# Altium integrated library Infineon_Automotive_System_IC.IntLib: 25 symbols (part 2 of 3)
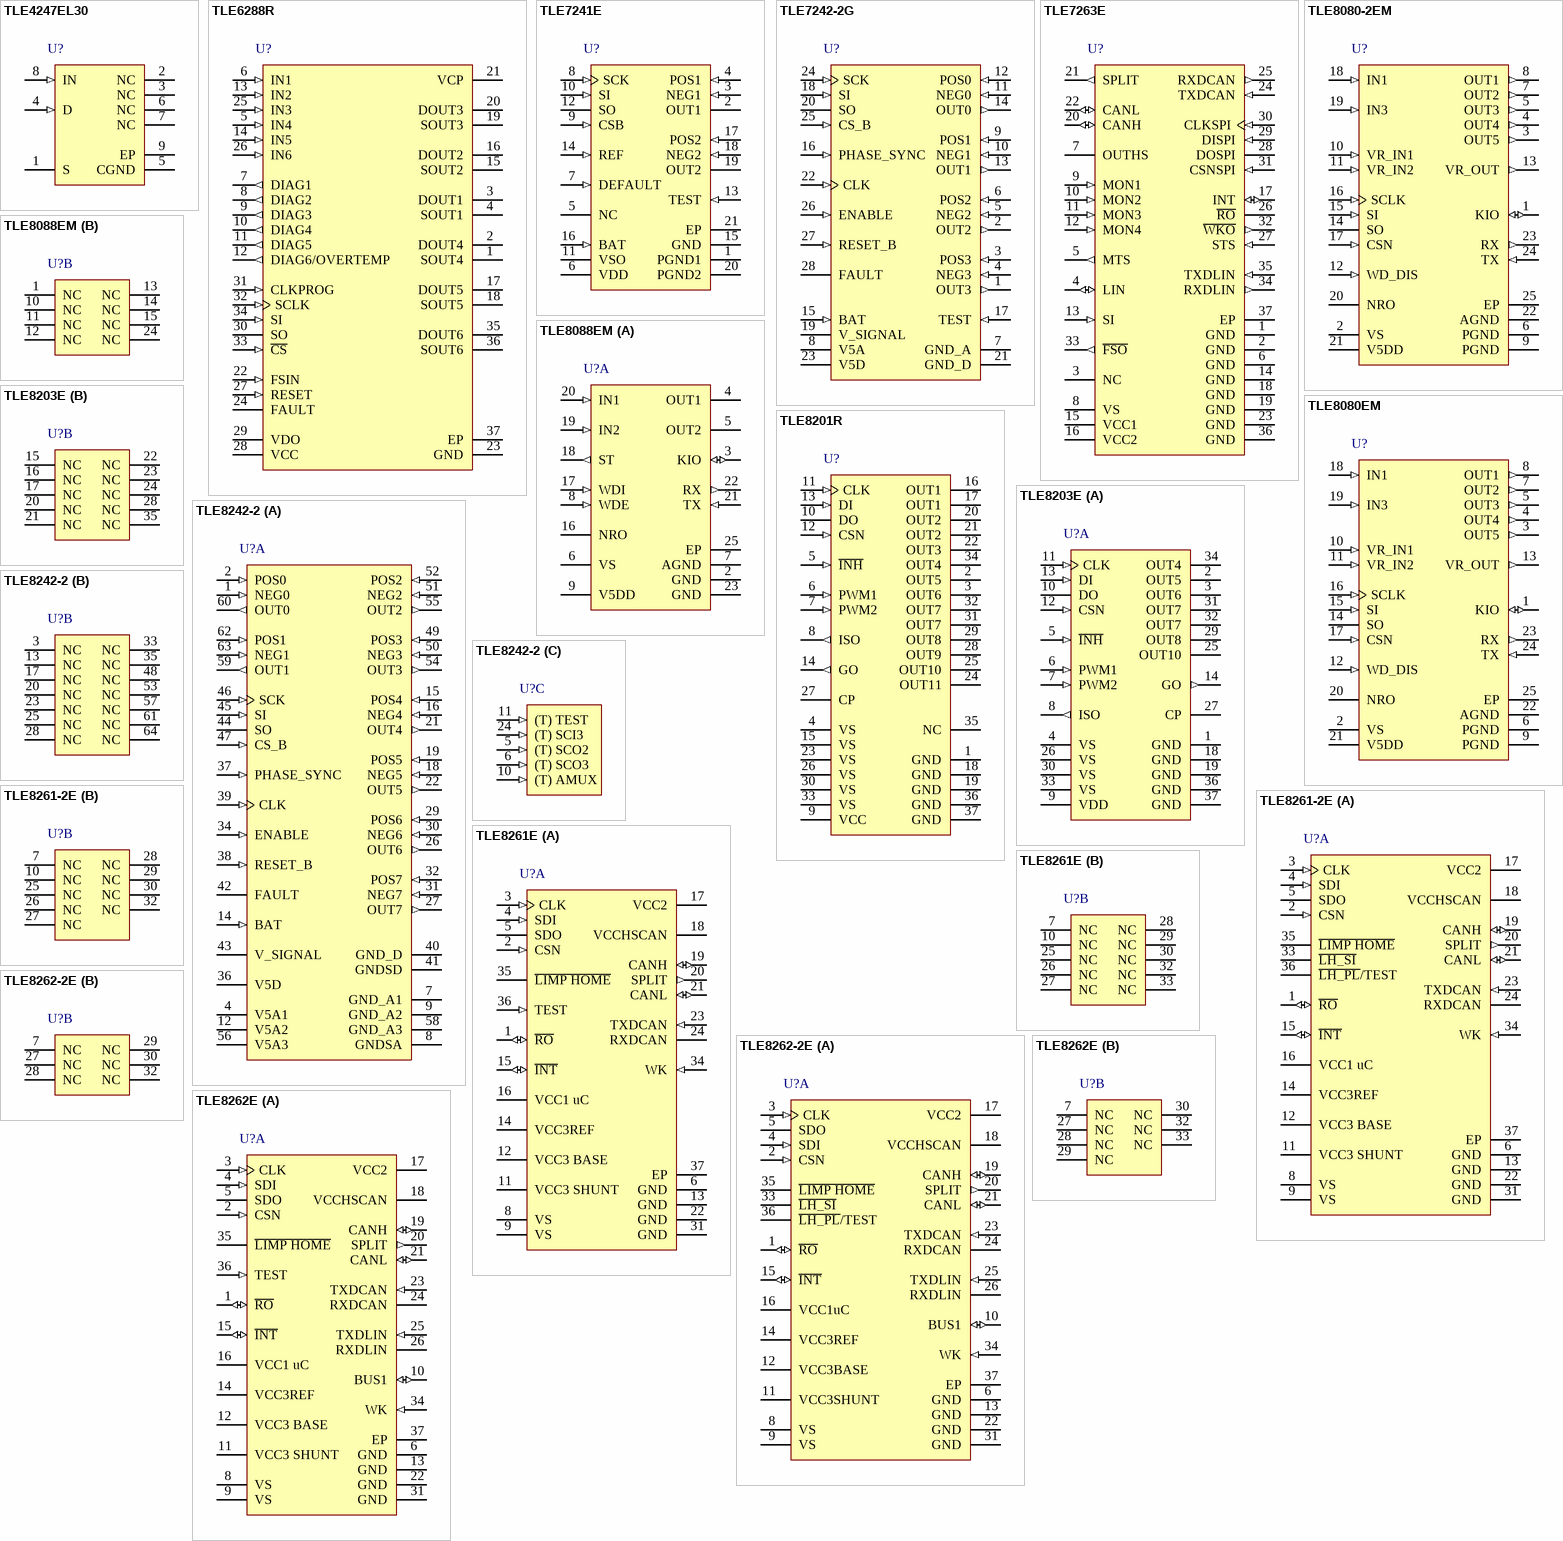
[diagram p2: symbols TLE4247EL30 to TLE8262E]

## TLE8242-2
designator U?
Fixed Frequency Constant Current Control with Current Profile Detection, 8 Channels, 5.5 to 42 V Operating Range, PG-LQFP-64-4, Reel, Green; Manufacturer: Infineon; PartNumber: TLE8242-2; Channels: 8; Green: TRUE; Quiescent Current (max.): 0.005 mA; SPI: 32 Bit; DatasheetVersion: Rev. 1.0; PackageVersion: Jun-08; PackageReference: PG-LQFP-64-4; PackageDescription: 64-Pin Plastic (Green) Low Profile Quad Flat Package, 10 x 10 mm Body, 0.5 mm Pitch; Halogen-free: TRUE; Operating Range: 5.5 to 42 V; Packing: Reel; Mounting Technology: Surface Mount; ComponentLink1Description: Manufacturer URL; ComponentLink1URL: http://www.infineon.com/; ComponentLink2Description: Datasheet; ComponentLink2URL: http://www.infineon.com/dgdl/TLE8242-2-Data+Sheet-Infineon-v10.pdf?folderId=db3a30431b3e89eb011bb632994f065b&fileId=db3a3043271faefd012743c4b3380fdd&sId=db3a30443d67b5ca013d7f5feae12b87; ComponentLink3Description: Package Specification; ComponentLink3URL: http://www.infineon.com/dgdl/PG-LQFP-64-4%2C-5%2C-13-Package_Overview.pdf?folderId=db3a30431a5c32f2011a8ca6115b5cf2&fileId=db3a30431a5c32f2011a8cb1baf95d11
footprint INF-PG-LQFP-64-4_N (QFP, 64-Leads, Body 10x10mm, Pitch 0.5mm, IPC Medium Density)
footprint INF-PG-LQFP-64-4_L (QFP, 64-Leads, Body 10x10mm, Pitch 0.5mm, IPC High Density)
footprint INF-PG-LQFP-64-4_M (QFP, 64-Leads, Body 10x10mm, Pitch 0.5mm, IPC Low Density)
part A pins: 1 NEG0 (in) "Channel #0 Negative sense pin; Connect to the “FET” side of the external sense resistor", 2 POS0 (in) "Channel #0 Positive sense pin; Connect to the “load” side of the external sense resistor", 4 V5A1 (power) "Supply Voltage; 5V input for analog circuits. An external capacitor is to be connected between this pin and GND_A near this pin", 7 GND_A1 (power) "Ground; ground pin for analog circuits", 8 GNDSA (power) "Ground; ground pin for substrate connection near analog circuits", 9 GND_A2 (power) "Ground; ground pin for analog circuits", 12 V5A2 (power) "Supply Voltage; 5V input for analog. An external capacitor is to be connected between this pin and GND_A near this pin", 14 BAT (in) "Battery Sense Input; for over-voltage detection. Connect through a series resistor (e.g. 1 K ohm) to the solenoid supply voltage. A large electrolytic capacitor (e.g. 47uF) should be placed between the BAT supply and ground", 15 POS4 (in) "Channel #4 Positive sense pin; Connect to the “load” side of the external sense resistor", 16 NEG4 (in) "Channel #4 Negative sense pin; Connect to the “FET” side of the external sense resistor", 18 NEG5 (in) "Channel #5 Negative sense pin; Connect to the “FET” side of the external sense resistor", 19 POS5 (in) "Channel #5 Positive sense pin; Connect to the “load” side of the external sense resistor", 21 OUT4 (out) "Gate driver output for channel #4; Connect to the gate of the external MOSFET", 22 OUT5 (out) "Gate driver output for channel #5; Connect to the gate of the external MOSFET", 26 OUT6 (out) "Gate driver output for channel #6; Connect to the gate of the external MOSFET", 27 OUT7 (out) "Gate driver output for channel #7; Connect to the gate of the external MOSFET", 29 POS6 (in) "Channel #6 Positive sense pin; Connect to the “load” side of the external sense resistor", 30 NEG6 (in) "Channel #6 Negative sense pin; Connect to the “FET” side of the external sense resistor", 31 NEG7 (in) "Channel #7 Negative sense pin; Connect to the “FET” side of the external sense resistor", 32 POS7 (in) "Channel #7 Positive sense pin; Connect to the “load” side of the external sense resistor", 34 ENABLE (in) "ENABLE logic input; When this input pin is low all channels are turned off (zero current) or remain in their last state, depending on how the channel is programmed to respond", 36 V5D (power) "Supply Voltage; 5V input for digital circuits. An external capacitor is to be connected between this pin and GND_D near this pin", 37 PHASE_SYNC (in) "Phase Synchronization Input: Used to synchronize the rising edges of the PWM signal on the OUTx pins for each channel", 38 RESET_B (in) "Reset Input; When this input pin is low all channels are turned off and all internal registers are reset to the default state. The part must be held in reset by an external source until all supplies are stable and within (See Datasheet)", 39 CLK (in) "CLOCK; Main clock input for the chip. A clock input of 20 MHz to 40 MHz is required", 40 GND_D (power) "Ground; ground pin for digital circuits", 41 GNDSD (power) "Ground; ground pin for substrate connection near digital circuits", 42 FAULT (oc) "Fault Output Pin; Open drain output pin is pulled low when a fault condition is detected. Certain faults can be masked via SPI", 43 V_SIGNAL (power) "Supply Voltage; Supply pin for the SPI SO output and the pull-up current sources of the digital inputs CS_B and RESET_B. An external capacitor must be connected between this pin and GND_D near this pin", 44 SO (hiz) "SPI Serial Data Out", 45 SI (in) "SPI Serial Data In", 46 SCK (in) "SPI Serial Clock Input", 47 CS_B (in) "SPI Chip Select Bar; active low signal", 49 POS3 (in) "Channel #3 Positive sense pin; Connect to the “load” side of the external sense resistor", 50 NEG3 (in) "Channel #3 Negative sense pin; Connect to the “FET” side of the external sense resistor", 51 NEG2 (in) "Channel #2 Negative sense pin; Connect to the “FET” side of the external sense resistor", 52 POS2 (in) "Channel #2 Positive sense pin; Connect to the “load” side of the external sense resistor", 54 OUT3 (out) "Gate driver output for channel #3; Connect to the gate of the external MOSFET", 55 OUT2 (out) "Gate driver output for channel #2; Connect to the gate of the external MOSFET", 56 V5A3 (power) "Supply Voltage;5V input for analog. An external capacitor is to be connected between this pin and GND_A near this pin.", 58 GND_A3 (power) "Ground; ground pin for analog circuits", 59 OUT1 (out) "Gate driver output for channel #1; Connect to the gate of the external MOSFET", 60 OUT0 (out) "Gate driver output for channel #0; Connect to the gate of the external MOSFET", 62 POS1 (in) "Channel #1 Positive sense pin; Connect to the “load” side of the external sense resistor", 63 NEG1 (in) "Channel #1 Negative sense pin; Connect to the “FET” side of the external sense resistor"
part B pins: 3 NC "Not Connected; do not connect to external supply, ground, or signal", 13 NC "Not Connected; do not connect to external supply, ground, or signal", 17 NC "Not Connected; do not connect to external supply, ground, or signal", 20 NC "Not Connected; do not connect to external supply, ground, or signal", 23 NC "Not Connected; do not connect to external supply, ground, or signal", 25 NC "Not Connected; do not connect to external supply, ground, or signal", 28 NC "Not Connected; do not connect to external supply, ground, or signal", 33 NC "Not Connected; do not connect to external supply, ground, or signal", 35 NC "Not Connected; do not connect to external supply, ground, or signal", 48 NC "Not Connected; do not connect to external supply, ground, or signal", 53 NC "Not Connected; do not connect to external supply, ground, or signal", 57 NC "Not Connected; do not connect to external supply, ground, or signal", 61 NC "Not Connected; do not connect to external supply, ground, or signal", 64 NC "Not Connected; do not connect to external supply, ground, or signal"
part C pins: 5 (T) SCO2 (in) "Test Pin; Used for IC test. Must be connected to GND_D for specified operation of the IC", 6 (T) SCO3 (in) "Test Pin; Used for IC test. Must be connected to GND_D for specified operation of the IC", 10 (T) AMUX (in) "Test Pin; Used for IC test. Must be connected to GND_D for specified operation of the IC", 11 (T) TEST (in) "Test Pin; Used for IC test. Must be connected to GND_D for specified operation of the IC", 24 (T) SCI3 (in) "Test Pin; Used for IC test. Must be connected to GND_D for specified operation of the IC"

## TLE8261-2E
designator U?
Universal System Basis Chip HERMES with Standard and Window Watchdog, PG-DSO-36-38, Reel, Green; Manufacturer: Infineon; PartNumber: TLE8261-2E; Failure Management: Fail-Safe 3 Limp-Home Outputs CAN Failure Detection; Green: TRUE; Group: High Speed CAN; Quiescent Current (max.): 28 uA (typ) Sleep Mode (5V on); Standby Current: 58 uA (typ) Stop Mode (5V on); Transceiver: High Speed CAN ISO 11898 - 5; Voltage Regulator Output: 2 x 200 mA + 400 mA; Wake-up inputs: Wake Pin, CAN; DatasheetVersion: Rev. 1.0; PackageVersion: Apr-09; PackageReference: PG-DSO-36-38; PackageDescription: 36-Pin Plastic (Green) Dual Small Outline Package, 12.7 x 7.5 mm Body, 0.65 mm Pitch; Supplier 1: Mouser; Supplier Part Number 1: 726-TLE82612E; Supplier 2: Digi-Key; Supplier Part Number 2: TLE8261-2E-ND; Halogen-free: TRUE; Packing: Reel; Watchdog: Standard and Window Watchdog; Mounting Technology: Surface Mount; ComponentLink1Description: Manufacturer URL; ComponentLink1URL: http://www.infineon.com/; ComponentLink2Description: Datasheet; ComponentLink2URL: http://www.infineon.com/dgdl/TLE8261-2E_DS_100.pdf?folderId=db3a30431ed1d7b2011edadb13813703&fileId=db3a304327b8975001281fd7ee23454c&location=en.Products.Automotive_ICs.System_Basis_Chips__SBC_.DATASHEET.TLE8261-2E_DS_100.pdf; ComponentLink3Description: Package Specification; ComponentLink3URL: http://www.infineon.com/dgdl/PG-DSO-36-24%2C-38%2C-41%2C-42%2C-50-Package_Overview.pdf?folderId=db3a304316f66ee801179ce26c705f4a&fileId=db3a304319c6f18c011a3ac6ea200605
footprint INF-PG-DSO-36-38-7000X5100TP_N (SOP, 36-Leads, Body 12.7x7.5mm, Pitch 0.65mm, Thermal Pad 7x5.1mm, IPC Medium Density)
footprint INF-PG-DSO-36-38-7000X5100TP_L (SOP, 36-Leads, Body 12.7x7.5mm, Pitch 0.65mm, Thermal Pad 7x5.1mm, IPC High Density)
footprint INF-PG-DSO-36-38-7000X5100TP_M (SOP, 36-Leads, Body 12.7x7.5mm, Pitch 0.65mm, Thermal Pad 7x5.1mm, IPC Low Density)
part A pins: 1 ~{RO} (io) "Reset Input/Output; open drain output, integrated pull-up resistor; active low.", 2 CSN (in) "SPI Chip Select Not Input; CSN is an active low input; serial communication is enabled by pulling the CSN terminal low; CSN input should be set to low only when CLK is low; CSN has an internal pull-up resistor and requires (See Datasheet)", 3 CLK (in) "SPI Clock Input; clock input for shift register; CLK has an internal pull-down resistor and requires CMOS logic level inputs.", 4 SDI (in) "SPI Data Input; receives serial data from the control device; serial data transmitted to SDI is a 16-bit control word with the Least Significant Bit (LSB) transferred first: the input has a pull-down resistor and requires (See Datasheet)", 5 SDO (hiz) "SPI Data Output; this tri-state output transfers diagnostic data to the control device; the output will remain tri-stated unless the device is selected by a low on Chip Select Not (CSN).", 6 GND (power) "Ground", 8 VS (power) "Power Supply Input; block to GND directly at the IC with ceramic capacitor. Ensure to have no current flow from PIN8 to PIN9. PIN8 and PIN9 can be directly connected.", 9 VS (power) "Power Supply Input; block to GND directly at the IC with ceramic capacitor. Ensure to have no current flow from PIN8 to PIN9. PIN8 and PIN9 can be directly connected.", 11 VCC3 SHUNT (power) "PNP Shunt; External PNP emitter voltage.", 12 VCC3 BASE (power) "PNP Base; External PNP base voltage.", 13 GND (power) "Ground", 14 VCC3REF (power) "External PNP Output Voltage", 15 ~{INT} (io) "Interrupt Output, configuration Input; used as wake-up flag from SBC Stop Mode and indicating failures. Active low. Integrated pull up. During start-up used to set the SBC configuration. External Pull-up sets config 1/3, no (See Datasheet)", 16 VCC1 uC (power) "Voltage Regulator Output; 5 V supply; to stabilize block to GND with an external capacitor.", 17 VCC2 (power) "Voltage Regulator Output; 5 V supply; to stabilize block to GND with an external capacitor.", 18 VCCHSCAN (power) "Supply Input; for the internal HS CAN cell.", 19 CANH (io) "CAN High Line; High in dominant state.", 20 SPLIT (out) "Termination Output; to support recessive voltage level of the bus lines.", 21 CANL (io) "CAN Low Line; Low in dominant state.", 22 GND (power) "Ground", 23 TXDCAN (in) "CAN Transmit Data Input; integrated pull-up resistor.", 24 RXDCAN (hiz) "CAN Receive Data Output", 31 GND (power) "Ground", 33 ~{LH_SI} (oc) "Limp Home side indicator; Side indicators 1.25Hz 50% duty cycle output; Open drain. Active LOW.", 34 WK (in) "Monitoring / Wake-Up Input; bi-level sensitive input used to monitor signals coming from, for example, an external switch panel; also used as wake-up input;", 35 ~{LIMP HOME} (hiz) "Fail-Safe Function Output; Open drain. Active LOW.", 36 ~{LH_PL}/TEST "SBC SW Development Mode entry; Connect to GND for activation; Integrated pullup resistor. Connect to VS or leave open for normal operation. Limp Home Pulsed Light output: Brake/rear light 100Hz 20% duty cycle output; Open (See Datasheet)", 37 EP (power) "Exposed Die Pad; For cooling purposes only, do not use it as an electrical ground.1"
part B pins: 7 NC "Not connected", 10 NC "Not connected", 25 NC "Not connected", 26 NC "Not connected", 27 NC "Not connected", 28 NC "Not connected", 29 NC "Not connected", 30 NC "Not connected", 32 NC "Not connected"

## TLE8261E
designator U?
Universal System Basis Chip HERMES with Standard and Window Watchdog, PG-DSO-36-38, Reel, Green; Manufacturer: Infineon; PartNumber: TLE8261E; Failure Management: Fail-Safe Mode Limp-Home Output CAN Failure Detection; Green: TRUE; Group: High Speed CAN; Quiescent Current (max.): 28 uA (typ) Sleep Mode (5V on); Standby Current: 58 uA (typ) Stop Mode (5V on); Transceiver: High Speed CAN ISO 11898 - 5; Voltage Regulator Output: 2 x 200 mA + 400 mA; Wake-up inputs: Wake Pin, CAN; DatasheetVersion: Rev. 1.0; PackageVersion: Apr-09; PackageReference: PG-DSO-36-38; PackageDescription: 36-Pin Plastic (Green) Dual Small Outline Package, 12.7 x 7.5 mm Body, 0.65 mm Pitch; Supplier 1: Mouser; Supplier Part Number 1: 726-TLE8261E; Supplier 2: Digi-Key; Supplier Part Number 2: TLE8261E-ND; Halogen-free: TRUE; Packing: Reel; Watchdog: Standard and Window Watchdog; Mounting Technology: Surface Mount; ComponentLink1Description: Manufacturer URL; ComponentLink1URL: http://www.infineon.com/; ComponentLink2Description: Datasheet; ComponentLink2URL: http://www.infineon.com/dgdl/TLE8261E_DS_100.pdf?folderId=db3a30431ed1d7b2011edadb13813703&fileId=db3a304320d39d59012186d5c47c2a01&location=en.Products.Automotive_ICs.System_Basis_Chips__SBC_.DATASHEET.TLE8261E_DS_100.pdf; ComponentLink3Description: Package Specification; ComponentLink3URL: http://www.infineon.com/dgdl/PG-DSO-36-24%2C-38%2C-41%2C-42%2C-50-Package_Overview.pdf?folderId=db3a304316f66ee801179ce26c705f4a&fileId=db3a304319c6f18c011a3ac6ea200605
footprint INF-PG-DSO-36-38-7000X5100TP_N (SOP, 36-Leads, Body 12.7x7.5mm, Pitch 0.65mm, Thermal Pad 7x5.1mm, IPC Medium Density)
footprint INF-PG-DSO-36-38-7000X5100TP_L (SOP, 36-Leads, Body 12.7x7.5mm, Pitch 0.65mm, Thermal Pad 7x5.1mm, IPC High Density)
footprint INF-PG-DSO-36-38-7000X5100TP_M (SOP, 36-Leads, Body 12.7x7.5mm, Pitch 0.65mm, Thermal Pad 7x5.1mm, IPC Low Density)
part A pins: 1 ~{RO} (io) "Reset Input/Output; open drain output, integrated pull-up resistor; active low.", 2 CSN (in) "SPI Chip Select Not Input; CSN is an active low input; serial communication is enabled by pulling the CSN terminal low; CSN input should be set to low only when CLK is low; CSN has an internal pull-up resistor and requires (See Datasheet)", 3 CLK (in) "SPI Clock Input; clock input for shift register; CLK has an internal pull-down resistor and requires CMOS logic level inputs.", 4 SDI (in) "SPI Data Input; receives serial data from the control device; serial data transmitted to SDI is a 16-bit control word with the Least Significant Bit (LSB) transferred first: the input has a pull-down resistor and requires (See Datasheet)", 5 SDO (hiz) "SPI Data Output; this tri-state output transfers diagnostic data to the control device; the output will remain tri-stated unless the device is selected by a low on Chip Select Not (CSN).", 6 GND (power) "Ground", 8 VS (power) "Power Supply Input; block to GND directly at the IC with ceramic capacitor. Ensure to have no current flow from PIN8 to PIN9. PIN8 and PIN9 can be directly connected.", 9 VS (power) "Power Supply Input; block to GND directly at the IC with ceramic capacitor. Ensure to have no current flow from PIN8 to PIN9. PIN8 and PIN9 can be directly connected.", 11 VCC3 SHUNT (power) "PNP Shunt; External PNP emitter voltage.", 12 VCC3 BASE (power) "PNP Base; External PNP base voltage.", 13 GND (power) "Ground", 14 VCC3REF (power) "External PNP Output Voltage", 15 ~{INT} (io) "Interrupt Output, configuration Input; used as wake-up flag from SBC Stop Mode and indicating failures. Active low. Integrated pull up. During start-up used to set the SBC configuration. External Pull-up sets config 1/3, no (See Datasheet)", 16 VCC1 uC (power) "Voltage Regulator Output; 5 V supply; to stabilize block to GND with an external capacitor.", 17 VCC2 (power) "Voltage Regulator Output; 5 V supply; to stabilize block to GND with an external capacitor.", 18 VCCHSCAN (power) "Supply Input; for the internal HS CAN cell.", 19 CANH (io) "CAN High Line; High in dominant state.", 20 SPLIT (out) "Termination Output; to support recessive voltage level of the bus lines.", 21 CANL (io) "CAN Low Line; Low in dominant state.", 22 GND (power) "Ground", 23 TXDCAN (in) "CAN Transmit Data Input; integrated pull-up resistor.", 24 RXDCAN (hiz) "CAN Receive Data Output", 31 GND (power) "Ground", 34 WK (in) "Monitoring / Wake-Up Input; bi-level sensitive input used to monitor signals coming from, for example, an external switch panel; also used as wake-up input;", 35 ~{LIMP HOME} (hiz) "Fail-Safe Function Output; Open drain. Active LOW.", 36 TEST (in) "SBC SW Development Mode entry; Connect to GND for activation; Integrated pullup resistor. Connect to VS or leave open for normal operation.", 37 EP "Exposed Die Pad; For cooling purposes only, do not use it as an electrical ground.1"
part B pins: 7 NC "Not connected", 10 NC "Not connected", 25 NC "Not connected", 26 NC "Not connected", 27 NC "Not connected", 28 NC "Not connected", 29 NC "Not connected", 30 NC "Not connected", 32 NC "Not connected", 33 NC "Not connected"

## TLE8262-2E
designator U?
Universal System Basis Chip HERMES with Standard and Window Watchdog, PG-DSO-36-38, Reel, Green; Manufacturer: Infineon; PartNumber: TLE8262-2E; Failure Management: Fail-Safe 3 Limp-Home Outputs CAN Failure Detection; Green: TRUE; Group: High Speed CAN + LIN; Quiescent Current (max.): 28 uA (typ) Sleep Mode (5V on); Standby Current: 58 uA (typ) Stop Mode (5V on); Transceiver: High Speed CAN ISO 11898 - 5 / 1 x LIN2.1 / J2602; Voltage Regulator Output: 2 x 200 mA + 400 mA; Wake-up inputs: Wake Pin, CAN, LIN; DatasheetVersion: Rev. 1.0; PackageVersion: Apr-09; PackageReference: PG-DSO-36-38; PackageDescription: 36-Pin Plastic (Green) Dual Small Outline Package, 12.7 x 7.5 mm Body, 0.65 mm Pitch; Supplier 1: Mouser; Supplier Part Number 1: 726-TLE82622E; Supplier 2: Digi-Key; Supplier Part Number 2: TLE8262-2E-ND; Halogen-free: TRUE; Packing: Reel; Watchdog: Standard and Window Watchdog; Mounting Technology: Surface Mount; ComponentLink1Description: Manufacturer URL; ComponentLink1URL: http://www.infineon.com/; ComponentLink2Description: Datasheet; ComponentLink2URL: http://www.infineon.com/dgdl/TLE8262-2E_DS_100.pdf?folderId=db3a30431ed1d7b2011edadb13813703&fileId=db3a304327b8975001281fdab29e4553&location=en.Products.Automotive_ICs.System_Basis_Chips__SBC_.DATASHEET.TLE8262-2E_DS_100.pdf; ComponentLink3Description: Package Specification; ComponentLink3URL: http://www.infineon.com/dgdl/PG-DSO-36-24%2C-38%2C-41%2C-42%2C-50-Package_Overview.pdf?folderId=db3a304316f66ee801179ce26c705f4a&fileId=db3a304319c6f18c011a3ac6ea200605
footprint INF-PG-DSO-36-38-7000X5100TP_N (SOP, 36-Leads, Body 12.7x7.5mm, Pitch 0.65mm, Thermal Pad 7x5.1mm, IPC Medium Density)
footprint INF-PG-DSO-36-38-7000X5100TP_L (SOP, 36-Leads, Body 12.7x7.5mm, Pitch 0.65mm, Thermal Pad 7x5.1mm, IPC High Density)
footprint INF-PG-DSO-36-38-7000X5100TP_M (SOP, 36-Leads, Body 12.7x7.5mm, Pitch 0.65mm, Thermal Pad 7x5.1mm, IPC Low Density)
part A pins: 1 ~{RO} (io) "Reset Input/Output; open drain output, integrated pull-up resistor; active low.", 2 CSN (in) "SPI Chip Select Not Input; CSN is an active low input; serial communication is enabled by pulling the CSN terminal low; CSN input should be set to low only when CLK is low; CSN has an internal pull-up resistor and requires (See Datasheet)", 3 CLK (in) "SPI Clock Input; clock input for shift register; CLK has an internal pull-down resistor and requires CMOS logic level inputs.", 4 SDI (in) "SPI Data Input; receives serial data from the control device; serial data transmitted to SDI is a 16-bit control word with the Least Significant Bit (LSB) transferred first: the input has a pull-down resistor and requires (See Datasheet)", 5 SDO (hiz) "SPI Data Output; this tri-state output transfers diagnostic data to the control device; the output will remain tri-stated unless the device is selected by a low on Chip Select Not (CSN).", 6 GND (power) "Ground", 8 VS (power) "Power Supply Input; block to GND directly at the IC with ceramic capacitor. Ensure to have no current flow from PIN8 to PIN9. PIN8 and PIN9 can be directly connected.", 9 VS (power) "Power Supply Input; block to GND directly at the IC with ceramic capacitor. Ensure to have no current flow from PIN8 to PIN9. PIN8 and PIN9 can be directly connected.", 10 BUS1 (io) "LIN Bus 1; Bus line for the LIN interface, according to ISO. 9141 and LIN specification 2.1 as well as SAE J2602-2.", 11 VCC3SHUNT (power) "PNP Shunt; External PNP emitter voltage.", 12 VCC3BASE (power) "PNP Base; External PNP base voltage.", 13 GND (power) "Ground", 14 VCC3REF (power) "External PNP Output Voltage", 15 ~{INT} (io) "Interrupt Output, configuration Input; used as wake-up flag from SBC Stop Mode and indicating failures. Active low. Integrated pull up. During start up used to set the SBC configuration. External Pull-up sets config 1/3, no (See Datasheet)", 16 VCC1uC (power) "Voltage Regulator Output; 5 V supply; to stabilize block to GND with an external capacitor.", 17 VCC2 (power) "Voltage Regulator Output; 5 V supply; to stabilize block to GND with an external capacitor.", 18 VCCHSCAN (power) "Supply Input; for the internal HS CAN cell.", 19 CANH (io) "CAN High Line; High in dominant state.", 20 SPLIT (out) "Termination Output; to support recessive voltage level of the bus lines", 21 CANL (io) "CAN Low Line; Low in dominant state", 22 GND (power) "Ground", 23 TXDCAN (in) "CAN Transmit Data Input; integrated pull-up resistor.", 24 RXDCAN (hiz) "CAN Receive Data Output", 25 TXDLIN (in) "LIN Transceiver Data input; according to ISO 9141 and LIN specification 2.1 as well as SAE J2602-2. integrated pull-up resistor.", 26 RXDLIN (hiz) "LIN Transceiver Data Output; according to the ISO 9141 and LIN specification 2.1 as well as SAE J2602-2; push-pull output; LOW in dominant state.", 31 GND (power) "Ground", 33 ~{LH_SI} (oc) "Limp Home side indicator; Side indicators 1.25Hz 50% duty cycle output; Open drain. Active LOW.", 34 WK (in) "Monitoring / Wake-Up Input; bi-level sensitive input used to monitor signals coming from, for example, an external switch panel; also used as wake-up input;", 35 ~{LIMP HOME} (hiz) "Fail-Safe Function Output; Open drain. Active LOW.", 36 ~{LH_PL}/TEST "SBC SW Development Mode entry; Connect to GND for activation; Integrated pullup resistor. Connect to VS or leave open for normal operation. Limp Home Pulsed Light output: Brake/rear light 100Hz 20% duty cycle output; Open (See Datasheet)", 37 EP "Exposed Die Pad; For cooling purposes only, do not use it as an electrical ground."
part B pins: 7 NC "Not connected", 27 NC "Not connected", 28 NC "Not connected", 29 NC "Not connected", 30 NC "Not connected", 32 NC "Not connected"

## TLE8262E
designator U?
Universal System Basis Chip HERMES with Standard and Window Watchdog, PG-DSO-36-38, Reel, Green; Manufacturer: Infineon; PartNumber: TLE8262E; Failure Management: Fail-Safe Mode Limp-Home Output CAN Failure Detection; Green: TRUE; Group: High Speed CAN + LIN; Quiescent Current (max.): 28 uA (typ) Sleep Mode (5V on); Standby Current: 58 uA (typ) Stop Mode (5V on); Transceiver: High Speed CAN ISO 11898 - 5 / 1 x LIN2.1 / J2602; Voltage Regulator Output: 2 x 200 mA + 400 mA; Wake-up inputs: Wake Pin, CAN, LIN; DatasheetVersion: Rev. 1.0; PackageVersion: Apr-09; PackageReference: PG-DSO-36-38; PackageDescription: 36-Pin Plastic (Green) Dual Small Outline Package, 12.7 x 7.5 mm Body, 0.65 mm Pitch; Supplier 1: Mouser; Supplier Part Number 1: 726-TLE8262E; Supplier 2: Digi-Key; Supplier Part Number 2: TLE8262E-ND; Halogen-free: TRUE; Packing: Reel; Watchdog: Standard and Window Watchdog; Mounting Technology: Surface Mount; ComponentLink1Description: Manufacturer URL; ComponentLink1URL: http://www.infineon.com/; ComponentLink2Description: Datasheet; ComponentLink2URL: http://www.infineon.com/dgdl/TLE8262E_DS_100.pdf?folderId=db3a30431ed1d7b2011edadb13813703&fileId=db3a304320d39d59012186cf005b29f7&location=en.Products.Automotive_ICs.System_Basis_Chips__SBC_.DATASHEET.TLE8262E_DS_100.pdf; ComponentLink3Description: Package Specification; ComponentLink3URL: http://www.infineon.com/dgdl/PG-DSO-36-24%2C-38%2C-41%2C-42%2C-50-Package_Overview.pdf?folderId=db3a304316f66ee801179ce26c705f4a&fileId=db3a304319c6f18c011a3ac6ea200605
footprint INF-PG-DSO-36-38-7000X5100TP_N (SOP, 36-Leads, Body 12.7x7.5mm, Pitch 0.65mm, Thermal Pad 7x5.1mm, IPC Medium Density)
footprint INF-PG-DSO-36-38-7000X5100TP_L (SOP, 36-Leads, Body 12.7x7.5mm, Pitch 0.65mm, Thermal Pad 7x5.1mm, IPC High Density)
footprint INF-PG-DSO-36-38-7000X5100TP_M (SOP, 36-Leads, Body 12.7x7.5mm, Pitch 0.65mm, Thermal Pad 7x5.1mm, IPC Low Density)
part A pins: 1 ~{RO} (io) "Reset Input/Output; open drain output, integrated pull-up resistor; active low.", 2 CSN (in) "SPI Chip Select Not Input; CSN is an active low input; serial communication is enabled by pulling the CSN terminal low; CSN input should be set to low only when CLK is low; CSN has an internal pull-up resistor and requires (See Datasheet)", 3 CLK (in) "SPI Clock Input; clock input for shift register; CLK has an internal pull-down resistor and requires CMOS logic level inputs.", 4 SDI (in) "SPI Data Input; receives serial data from the control device; serial data transmitted to SDI is a 16-bit control word with the Least Significant Bit (LSB) transferred first: the input has a pull-down resistor and requires (See Datasheet)", 5 SDO (hiz) "SPI Data Output; this tri-state output transfers diagnostic data to the control device; the output will remain tri-stated unless the device is selected by a low on Chip Select Not (CSN).", 6 GND (power) "Ground", 8 VS (power) "Power Supply Input; block to GND directly at the IC with ceramic capacitor. Ensure to have no current flow from PIN8 to PIN9. PIN8 and PIN9 can be directly connected.", 9 VS (power) "Power Supply Input; block to GND directly at the IC with ceramic capacitor. Ensure to have no current flow from PIN8 to PIN9. PIN8 and PIN9 can be directly connected.", 10 BUS1 (io) "LIN Bus 1; Bus line for the LIN interface, according to ISO. 9141 and LIN specification 2.1 as well as SAE J2602-2.", 11 VCC3 SHUNT (power) "PNP Shunt; External PNP emitter voltage.", 12 VCC3 BASE (power) "PNP Base; External PNP base voltage.", 13 GND (power) "Ground", 14 VCC3REF (power) "External PNP Output Voltage", 15 ~{INT} (io) "Interrupt Output, configuration Input; used as wake-up flag from SBC Stop Mode and indicating failures. Active low. Integrated pull up. During start-up used to set the SBC configuration. External Pull-up sets config 1/3, no (See Datasheet)", 16 VCC1 uC (power) "Voltage Regulator Output; 5 V supply; to stabilize block to GND with an external capacitor.", 17 VCC2 (power) "Voltage Regulator Output; 5 V supply; to stabilize block to GND with an external capacitor.", 18 VCCHSCAN (power) "Supply Input; for the internal HS CAN cell.", 19 CANH (io) "CAN High Line; High in dominant state.", 20 SPLIT (out) "Termination Output; to support recessive voltage level of the bus lines.", 21 CANL (io) "CAN Low Line; Low in dominant state.", 22 GND (power) "Ground", 23 TXDCAN (in) "CAN Transmit Data Input; integrated pull-up resistor.", 24 RXDCAN (hiz) "CAN Receive Data Output", 25 TXDLIN (in) "LIN Transceiver Data input; according to ISO 9141 and LIN specification 2.1 as well as SAE J2602-2. integrated pull-up resistor.", 26 RXDLIN (hiz) "LIN Transceiver Data Output; according to the ISO 9141 and LIN specification 2.1 as well as SAE J2602-2; push-pull output; LOW in dominant state.", 31 GND (power) "Ground", 34 WK (in) "Monitoring / Wake-Up Input; bi-level sensitive input used to monitor signals coming from, for example, an external switch panel; also used as wake-up input;", 35 ~{LIMP HOME} (hiz) "Fail-Safe Function Output; Open drain. Active LOW.", 36 TEST (in) "SBC SW Development Mode entry; Connect to GND for activation; Integrated pullup resistor. Connect to VS or leave open for normal operation.", 37 EP "Exposed Die Pad; For cooling purposes only, do not use it as an electrical ground.1"
part B pins: 7 NC "Not connected", 27 NC "Not connected", 28 NC "Not connected", 29 NC "Not connected", 30 NC "Not connected", 32 NC "Not connected", 33 NC "Not connected"

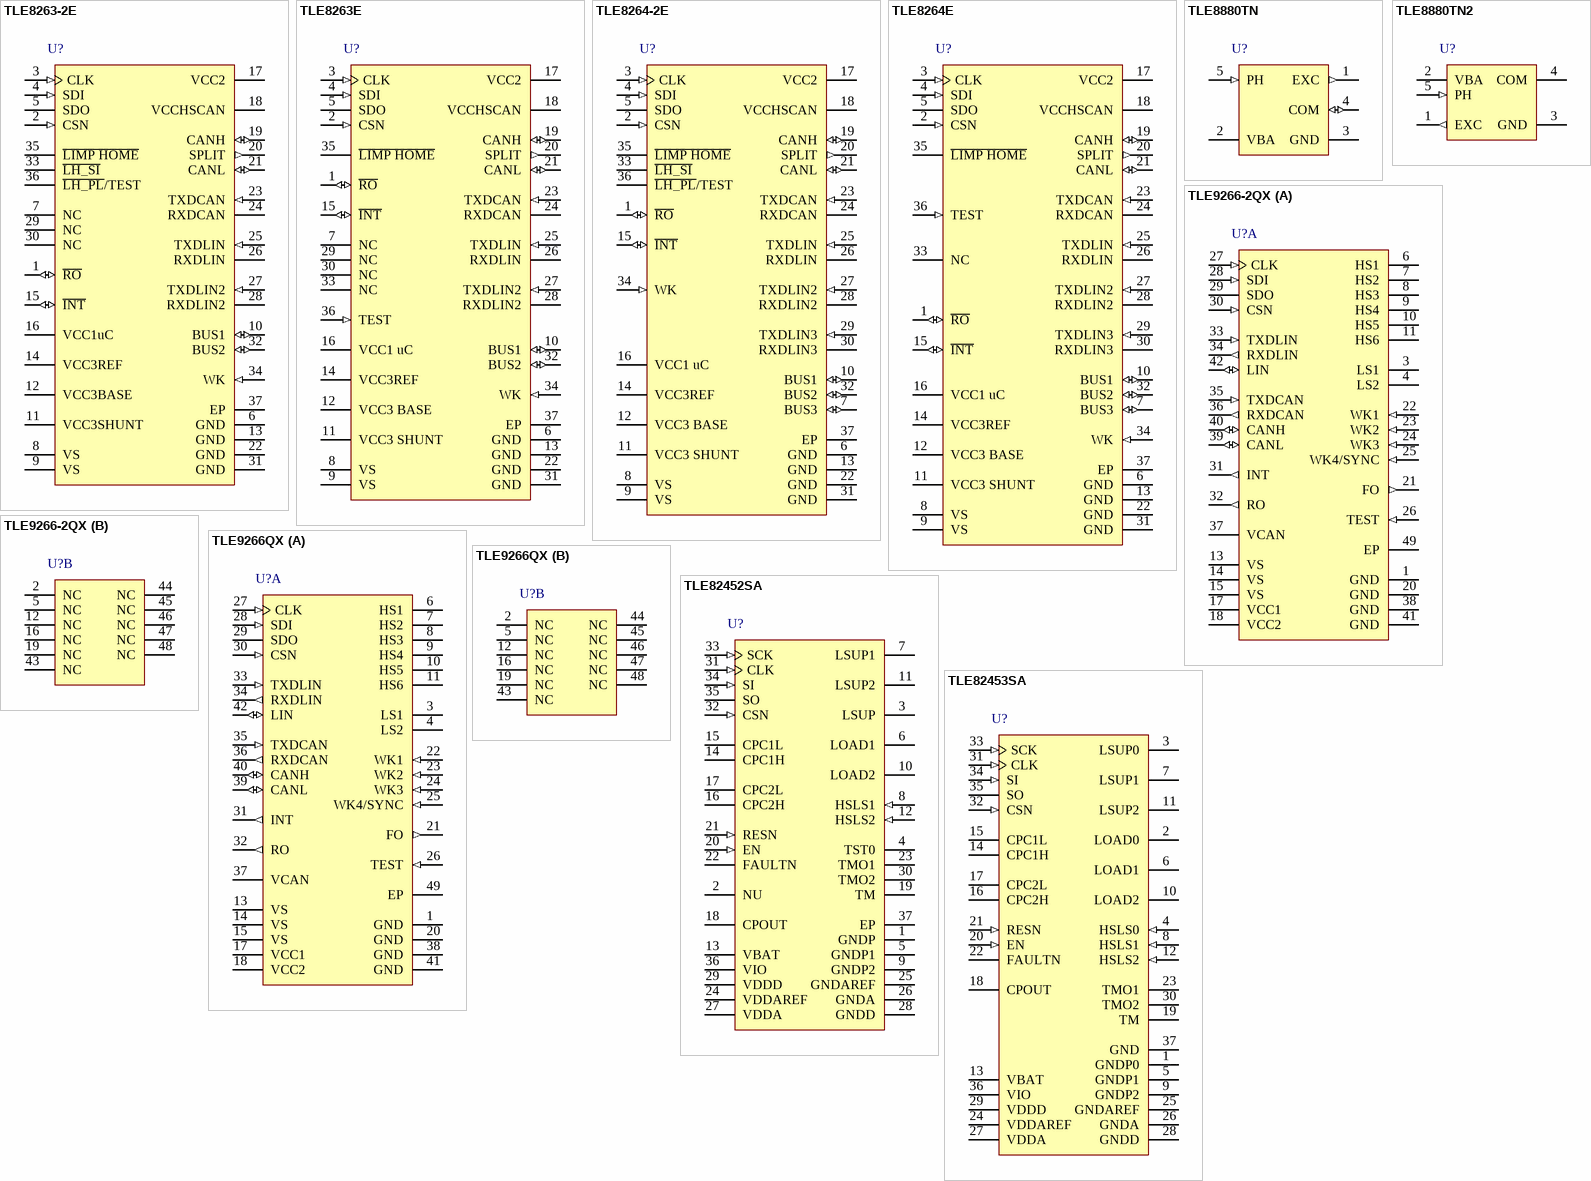
[diagram p1: symbols TLE8263-2E to TLE82453SA]

## TLE8263-2E
designator U?
Universal System Basis Chip HERMES with Standard and Window Watchdog, PG-DSO-36-38, Reel, Green; Manufacturer: Infineon; PartNumber: TLE8263-2E; Failure Management: Fail-Safe 3 Limp-Home Outputs CAN Failure Detection; Green: TRUE; Group: High Speed CAN + LIN; Quiescent Current (max.): 28 uA (typ) Sleep Mode (5V on); Standby Current: 58 uA (typ) Stop Mode (5V on); Transceiver: High Speed CAN ISO 11898 - 5 / 2 x LIN2.1 / J2602; Voltage Regulator Output: 2 x 200 mA + 400 mA; Wake-up inputs: Wake Pin, CAN, LIN; DatasheetVersion: Rev. 1.0; PackageVersion: Apr-09; PackageReference: PG-DSO-36-38; PackageDescription: 36-Pin Plastic (Green) Dual Small Outline Package, 12.7 x 7.5 mm Body, 0.65 mm Pitch; Supplier 1: Mouser; Supplier Part Number 1: 726-TLE82632E; Supplier 2: Digi-Key; Supplier Part Number 2: TLE8263-2E-ND; Halogen-free: TRUE; Packing: Reel; Watchdog: Standard and Window Watchdog; Mounting Technology: Surface Mount; ComponentLink1Description: Manufacturer URL; ComponentLink1URL: http://www.infineon.com/; ComponentLink2Description: Datasheet; ComponentLink2URL: http://www.infineon.com/dgdl/TLE8263-2E_DS_100.pdf?folderId=db3a30431ed1d7b2011edadb13813703&fileId=db3a304327b8975001281fdc16e44559&location=en.Products.Automotive_ICs.System_Basis_Chips__SBC_.DATASHEET.TLE8263-2E_DS_100.pdf; ComponentLink3Description: Package Specification; ComponentLink3URL: http://www.infineon.com/dgdl/PG-DSO-36-24%2C-38%2C-41%2C-42%2C-50-Package_Overview.pdf?folderId=db3a304316f66ee801179ce26c705f4a&fileId=db3a304319c6f18c011a3ac6ea200605
footprint INF-PG-DSO-36-38-7000X5100TP_N (SOP, 36-Leads, Body 12.7x7.5mm, Pitch 0.65mm, Thermal Pad 7x5.1mm, IPC Medium Density)
footprint INF-PG-DSO-36-38-7000X5100TP_L (SOP, 36-Leads, Body 12.7x7.5mm, Pitch 0.65mm, Thermal Pad 7x5.1mm, IPC High Density)
footprint INF-PG-DSO-36-38-7000X5100TP_M (SOP, 36-Leads, Body 12.7x7.5mm, Pitch 0.65mm, Thermal Pad 7x5.1mm, IPC Low Density)
pins: 1 ~{RO} (io) "Reset Input/Output; open drain output, integrated pull-up resistor; active low.", 2 CSN (in) "SPI Chip Select Not Input; CSN is an active low input; serial communication is enabled by pulling the CSN terminal low; CSN input should be set to low only when CLK is low; CSN has an internal pull-up resistor and requires (See Datasheet)", 3 CLK (in) "SPI Clock Input; clock input for shift register; CLK has an internal pull-down resistor and requires CMOS logic level inputs.", 4 SDI (in) "SPI Data Input; receives serial data from the control device; serial data transmitted to SDI is a 16-bit control word with the Least Significant Bit (LSB) transferred first: the input has a pull-down resistor and requires (See Datasheet)", 5 SDO (hiz) "SPI Data Output; this tri-state output transfers diagnostic data to the control device; the output will remain tri-stated unless the device is selected by a low on Chip Select Not (CSN).", 6 GND (power) "Ground", 7 NC "Not connected", 8 VS (power) "Power Supply Input; block to GND directly at the IC with ceramic capacitor. Ensure to have no current flow from PIN8 to PIN9. PIN8 and PIN9 can be directly connected.", 9 VS (power) "Power Supply Input; block to GND directly at the IC with ceramic capacitor. Ensure to have no current flow from PIN8 to PIN9. PIN8 and PIN9 can be directly connected.", 10 BUS1 (io) "LIN Bus 1; Bus line for the LIN interface, according to ISO. 9141 and LIN specification 2.1 as well as SAE J2602-2.", 11 VCC3SHUNT (power) "PNP Shunt; External PNP emitter voltage.", 12 VCC3BASE (power) "PNP Base; External PNP base voltage.", 13 GND (power) "Ground", 14 VCC3REF (power) "External PNP Output Voltage", 15 ~{INT} (io) "Interrupt Output, configuration Input; used as wake-up flag from SBC Stop Mode and indicating failures. Active low. Integrated pull up. During start up used to set the SBC configuration. External Pull-up sets config 1/3, no (See Datasheet)", 16 VCC1uC (power) "Voltage Regulator Output; 5 V supply; to stabilize block to GND with an external capacitor.", 17 VCC2 (power) "Voltage Regulator Output; 5 V supply; to stabilize block to GND with an external capacitor.", 18 VCCHSCAN (power) "Supply Input; for the internal HS CAN cell.", 19 CANH (io) "CAN High Line; High in dominant state.", 20 SPLIT (out) "Termination Output; to support recessive voltage level of the bus lines", 21 CANL (io) "CAN Low Line; Low in dominant state", 22 GND (power) "Ground", 23 TXDCAN (in) "CAN Transmit Data Input; integrated pull-up resistor.", 24 RXDCAN (hiz) "CAN Receive Data Output", 25 TXDLIN (in) "LIN Transceiver Data input; according to ISO 9141 and LIN specification 2.1 as well as SAE J2602-2. integrated pull-up resistor.", 26 RXDLIN (hiz) "LIN Transceiver Data Output; according to the ISO 9141 and LIN specification 2.1 as well as SAE J2602-2; push-pull output; LOW in dominant state.", 27 TXDLIN2 (in) "LIN Transceiver Data Input; according to ISO 9141 and LIN specification 2.1 as well as SAE J2602-2. integrated pull-up resistor", 28 RXDLIN2 (hiz) "LIN Transceiver Data Output; according to the ISO 9141 and LIN specification 2.1 as well as SAE J2602-2; push-pull output; LOW in dominant state.", 29 NC "Not connected", 30 NC "Not connected", 31 GND (power) "Ground", 32 BUS2 (io) "LIN Bus 2; Bus line for the LIN interface, according to ISO 9141 and LIN specification 2.1 as well as SAE J2602-2.", 33 ~{LH_SI} (oc) "Limp Home side indicator; Side indicators 1.25Hz 50% duty cycle output; Open drain. Active LOW.", 34 WK (in) "Monitoring / Wake-Up Input; bi-level sensitive input used to monitor signals coming from, for example, an external switch panel; also used as wake-up input;", 35 ~{LIMP HOME} (hiz) "Fail-Safe Function Output; Open drain. Active LOW.", 36 ~{LH_PL}/TEST "SBC SW Development Mode entry; Connect to GND for activation; Integrated pullup resistor. Connect to VS or leave open for normal operation. Limp Home Pulsed Light output: Brake/rear light 100Hz 20% duty cycle output; Open (See Datasheet)", 37 EP "Exposed Die Pad; For cooling purposes only, do not use it as an electrical ground."

## TLE8263E
designator U?
Universal System Basis Chip HERMES with Standard and Window Watchdog, PG-DSO-36-38, Reel, Green; Manufacturer: Infineon; PartNumber: TLE8263E; Failure Management: Fail-Safe Mode Limp-Home Output CAN Failure Detection; Green: TRUE; Group: High Speed CAN + LIN; Quiescent Current (max.): 28 uA (typ) Sleep Mode (5V on); Standby Current: 58 uA (typ) Stop Mode (5V on); Transceiver: High Speed CAN ISO 11898 - 5 / 2 x LIN2.1 / J2602; Voltage Regulator Output: 2 x 200 mA + 400 mA; Wake-up inputs: Wake Pin, CAN, LIN; DatasheetVersion: Rev. 1.0; PackageVersion: Apr-09; PackageReference: PG-DSO-36-38; PackageDescription: 36-Pin Plastic (Green) Dual Small Outline Package, 12.7 x 7.5 mm Body, 0.65 mm Pitch; Supplier 1: Mouser; Supplier Part Number 1: 726-TLE8263E; Supplier 2: Digi-Key; Supplier Part Number 2: TLE8263E-ND; Halogen-free: TRUE; Packing: Reel; Watchdog: Standard and Window Watchdog; Mounting Technology: Surface Mount; ComponentLink1Description: Manufacturer URL; ComponentLink1URL: http://www.infineon.com/; ComponentLink2Description: Datasheet; ComponentLink2URL: http://www.infineon.com/dgdl/TLE8263E_DS_100.pdf?folderId=db3a30431ed1d7b2011edadb13813703&fileId=db3a304320d39d59012186d0e69429fc&location=en.Products.Automotive_ICs.System_Basis_Chips__SBC_.DATASHEET.TLE8263E_DS_100.pdf; ComponentLink3Description: Package Specification; ComponentLink3URL: http://www.infineon.com/dgdl/PG-DSO-36-24%2C-38%2C-41%2C-42%2C-50-Package_Overview.pdf?folderId=db3a304316f66ee801179ce26c705f4a&fileId=db3a304319c6f18c011a3ac6ea200605
footprint INF-PG-DSO-36-38-7000X5100TP_N (SOP, 36-Leads, Body 12.7x7.5mm, Pitch 0.65mm, Thermal Pad 7x5.1mm, IPC Medium Density)
footprint INF-PG-DSO-36-38-7000X5100TP_L (SOP, 36-Leads, Body 12.7x7.5mm, Pitch 0.65mm, Thermal Pad 7x5.1mm, IPC High Density)
footprint INF-PG-DSO-36-38-7000X5100TP_M (SOP, 36-Leads, Body 12.7x7.5mm, Pitch 0.65mm, Thermal Pad 7x5.1mm, IPC Low Density)
pins: 1 ~{RO} (io) "Reset Input/Output; open drain output, integrated pull-up resistor; active low.", 2 CSN (in) "SPI Chip Select Not Input; CSN is an active low input; serial communication is enabled by pulling the CSN terminal low; CSN input should be set to low only when CLK is low; CSN has an internal pull-up resistor and requires (See Datasheet)", 3 CLK (in) "SPI Clock Input; clock input for shift register; CLK has an internal pull-down resistor and requires CMOS logic level inputs.", 4 SDI (in) "SPI Data Input; receives serial data from the control device; serial data transmitted to SDI is a 16-bit control word with the Least Significant Bit (LSB) transferred first: the input has a pull-down resistor and requires (See Datasheet)", 5 SDO (hiz) "SPI Data Output; this tri-state output transfers diagnostic data to the control device; the output will remain tri-stated unless the device is selected by a low on Chip Select Not (CSN).", 6 GND (power) "Ground", 7 NC "Not connected", 8 VS (power) "Power Supply Input; block to GND directly at the IC with ceramic capacitor. Ensure to have no current flow from PIN8 to PIN9. PIN8 and PIN9 can be directly connected.", 9 VS (power) "Power Supply Input; block to GND directly at the IC with ceramic capacitor. Ensure to have no current flow from PIN8 to PIN9. PIN8 and PIN9 can be directly connected.", 10 BUS1 (io) "LIN Bus 1; Bus line for the LIN interface, according to ISO 9141 and LIN specification 2.1 as well as SAE J2602-2.", 11 VCC3 SHUNT (power) "PNP Shunt; External PNP emitter voltage.", 12 VCC3 BASE (power) "PNP Base; External PNP base voltage.", 13 GND (power) "Ground", 14 VCC3REF (power) "External PNP Output Voltage", 15 ~{INT} (io) "Interrupt Output, configuration Input; used as wake-up flag from SBC Stop Mode and indicating failures. Active low. Integrated pull up. During start-up used to set the SBC configuration. External Pull-up sets config 1/3, no (See Datasheet)", 16 VCC1 uC (power) "Voltage Regulator Output; 5 V supply; to stabilize block to GND with an external capacitor.", 17 VCC2 (power) "Voltage Regulator Output; 5 V supply; to stabilize block to GND with an external capacitor.", 18 VCCHSCAN (power) "Supply Input; for the internal HS CAN cell.", 19 CANH (io) "CAN High Line; High in dominant state.", 20 SPLIT (out) "Termination Output; to support recessive voltage level of the bus lines.", 21 CANL (io) "CAN Low Line; Low in dominant state.", 22 GND (power) "Ground", 23 TXDCAN (in) "CAN Transmit Data Input; integrated pull-up resistor.", 24 RXDCAN (hiz) "CAN Receive Data Output", 25 TXDLIN (in) "LIN Transceiver Data input; according to ISO 9141 and LIN specification 2.1 as well as SAE J2602-2. integrated pull-up resistor.", 26 RXDLIN (hiz) "LIN Transceiver Data Output; according to the ISO 9141 and LIN specification 2.1 as well as SAE J2602-2; push-pull output; LOW in dominant state.", 27 TXDLIN2 (in) "LIN Transceiver Data Input; according to ISO 9141 and LIN specification 2.1 as well as SAE J2602-2. integrated pull-up resistor.", 28 RXDLIN2 (hiz) "LIN Transceiver Data Output; according to the ISO 9141 and LIN specification 2.1 as well as SAE J2602-2; push-pull output; LOW in dominant state.", 29 NC "Not connected", 30 NC "Not connected", 31 GND (power) "Ground", 32 BUS2 (io) "LIN Bus 2; Bus line for the LIN interface, according to ISO 9141 and LIN specification 2.1 as well as SAE J2602-2.", 33 NC "Not connected", 34 WK (in) "Monitoring / Wake-Up Input; bi-level sensitive input used to monitor signals coming from, for example, an external switch panel; also used as wake-up input;", 35 ~{LIMP HOME} (hiz) "Fail-Safe Function Output; Open drain. Active LOW.", 36 TEST (in) "SBC SW Development Mode entry; Connect to GND for activation; Integrated pullup resistor. Connect to VS or leave open for normal operation.", 37 EP "Exposed Die Pad; For cooling purposes only, do not use it as an electrical ground.1"

## TLE8264-2E
designator U?
Universal System Basis Chip HERMES with Standard and Window Watchdog, PG-DSO-36-38, Reel, Green; Manufacturer: Infineon; PartNumber: TLE8264-2E; Failure Management: Fail-Safe 3 Limp-Home Outputs CAN Failure Detection; Green: TRUE; Group: High Speed CAN + LIN; Quiescent Current (max.): 28 uA (typ) Sleep Mode (5V on); Standby Current: 58 uA (typ) Stop Mode (5V on); Transceiver: High Speed CAN ISO 11898 - 5 / 3 x LIN2.0 / J2602; Voltage Regulator Output: 2 x 200 mA + 400 mA; Wake-up inputs: Wake Pin, CAN, LIN; DatasheetVersion: Rev. 1.0; PackageVersion: Apr-09; PackageReference: PG-DSO-36-38; PackageDescription: 36-Pin Plastic (Green) Dual Small Outline Package, 12.7 x 7.5 mm Body, 0.65 mm Pitch; Supplier 1: Mouser; Supplier Part Number 1: 726-TLE82642E; Supplier 2: Digi-Key; Supplier Part Number 2: TLE8264-2E-ND; Halogen-free: TRUE; Packing: Reel; Watchdog: Standard and Window Watchdog; Mounting Technology: Surface Mount; ComponentLink1Description: Manufacturer URL; ComponentLink1URL: http://www.infineon.com/; ComponentLink2Description: Datasheet; ComponentLink2URL: http://www.infineon.com/dgdl/TLE8264-2E_DS_100.pdf?folderId=db3a30431ed1d7b2011edadb13813703&fileId=db3a304327b8975001281fdfbe9e4564&location=en.Products.Automotive_ICs.System_Basis_Chips__SBC_.DATASHEET.TLE8264-2E_DS_100.pdf; ComponentLink3Description: Package Specification; ComponentLink3URL: http://www.infineon.com/dgdl/PG-DSO-36-24%2C-38%2C-41%2C-42%2C-50-Package_Overview.pdf?folderId=db3a304316f66ee801179ce26c705f4a&fileId=db3a304319c6f18c011a3ac6ea200605
footprint INF-PG-DSO-36-38-7000X5100TP_N (SOP, 36-Leads, Body 12.7x7.5mm, Pitch 0.65mm, Thermal Pad 7x5.1mm, IPC Medium Density)
footprint INF-PG-DSO-36-38-7000X5100TP_L (SOP, 36-Leads, Body 12.7x7.5mm, Pitch 0.65mm, Thermal Pad 7x5.1mm, IPC High Density)
footprint INF-PG-DSO-36-38-7000X5100TP_M (SOP, 36-Leads, Body 12.7x7.5mm, Pitch 0.65mm, Thermal Pad 7x5.1mm, IPC Low Density)
pins: 1 ~{RO} (io) "Reset Input/Output; open drain output, integrated pull-up resistor; active low.", 2 CSN (in) "SPI Chip Select Not Input; CSN is an active low input; serial communication is enabled by pulling the CSN terminal low; CSN input should be set to low only when CLK is low; CSN has an internal pull-up resistor and requires (See Datasheet)", 3 CLK (in) "SPI Clock Input; clock input for shift register; CLK has an internal pull-down resistor and requires CMOS logic level inputs.", 4 SDI (in) "SPI Data Input; receives serial data from the control device; serial data transmitted to SDI is a 16-bit control word with the Least Significant Bit (LSB) transferred first: the input has a pull-down resistor and requires (See Datasheet)", 5 SDO (hiz) "SPI Data Output; this tri-state output transfers diagnostic data to the control device; the output will remain tri-stated unless the device is selected by a low on Chip Select Not (CSN).", 6 GND (power) "Ground", 7 BUS3 (io) "LIN Bus 3; Bus line for the LIN interface, according to ISO 9141 and LIN specification 2.1 as well as SAE J2602-2.", 8 VS (power) "Power Supply Input; block to GND directly at the IC with ceramic capacitor. Ensure to have no current flow from PIN8 to PIN9. PIN8 and PIN9 can be directly connected.", 9 VS (power) "Power Supply Input; block to GND directly at the IC with ceramic capacitor. Ensure to have no current flow from PIN8 to PIN9. PIN8 and PIN9 can be directly connected.", 10 BUS1 (io) "LIN Bus 1; Bus line for the LIN interface, according to ISO 9141 and LIN specification 2.1 as well as SAE J2602-2.", 11 VCC3 SHUNT (power) "PNP Shunt; External PNP emitter voltage.", 12 VCC3 BASE (power) "PNP Base; External PNP base voltage.", 13 GND (power) "Ground", 14 VCC3REF (power) "External PNP Output Voltage", 15 ~{INT} (io) "Interrupt Output, configuration Input; used as wake-up flag from SBC Stop Mode and indicating failures. Active low. Integrated pull up. During start-up used to set the SBC configuration. External Pull-up sets config 1/3, no (See Datasheet)", 16 VCC1 uC (power) "Voltage Regulator Output; 5 V supply; to stabilize block to GND with an external capacitor.", 17 VCC2 (power) "Voltage Regulator Output; 5 V supply; to stabilize block to GND with an external capacitor.", 18 VCCHSCAN (power) "Supply Input; for the internal HS CAN cell.", 19 CANH (io) "CAN High Line; High in dominant state.", 20 SPLIT (out) "Termination Output; to support recessive voltage level of the bus lines.", 21 CANL (io) "CAN Low Line; Low in dominant state.", 22 GND (power) "Ground", 23 TXDCAN (in) "CAN Transmit Data Input; integrated pull-up resistor.", 24 RXDCAN (hiz) "CAN Receive Data Output", 25 TXDLIN (in) "LIN Transceiver Data input; according to ISO 9141 and LIN specification 2.1 as well as SAE J2602-2. integrated pull-up resistor.", 26 RXDLIN (hiz) "LIN Transceiver Data Output; according to the ISO 9141 and LIN specification 2.1 as well as SAE J2602-2; push-pull output; LOW in dominant state.", 27 TXDLIN2 (in) "LIN Transceiver Data Input; according to ISO 9141 and LIN specification 2.1 as well as SAE J2602-2. integrated pull-up resistor.", 28 RXDLIN2 (hiz) "LIN Transceiver Data Output; according to the ISO 9141 and LIN specification 2.1 as well as SAE J2602-2; push-pull output; LOW in dominant state.", 29 TXDLIN3 (in) "LIN Transceiver Data Input; according to ISO 9141 and LIN specification 2.1 as well as SAE J2602-2. integrated pull-up resistor.", 30 RXDLIN3 (hiz) "LIN Transceiver Data Output; according to the ISO 9141 and LIN specification 2.1 as well as SAE J2602-2; push-pull output; LOW in dominant state.", 31 GND (power) "Ground", 32 BUS2 (io) "LIN Bus 2; Bus line for the LIN interface, according to ISO 9141 and LIN specification 2.1 as well as SAE J2602-2.", 33 ~{LH_SI} (oc) "Limp Home side indicator; Side indicators 1.25Hz 50% duty cycle output; Open drain. Active LOW.", 34 WK (in) "Monitoring / Wake-Up Input; bi-level sensitive input used to monitor signals coming from, for example, an external switch panel; also used as wake-up input;", 35 ~{LIMP HOME} (hiz) "Fail-Safe Function Output; Open drain. Active LOW.", 36 ~{LH_PL}/TEST "SBC SW Development Mode entry; Connect to GND for activation; Integrated pullup resistor. Connect to VS or leave open for normal operation. Limp Home Pulsed Light output: Brake/rear light 100Hz 20% duty cycle output; Open (See Datasheet)", 37 EP "Exposed Die Pad; For cooling purposes only, do not use it as an electrical ground.1"